# Altium footprint library VFQFN-16.PcbLib: 1 footprints
Each footprint in its own frame and in the unit in brackets; x right, y up, seen from the top. Pads: shape width x height; smd on the part's side, far side on the other; paste and mask are expansions set on the pad; w line width, h text height; cw(c..) or ccw(c..) is an arc to the next point about the centre after c.
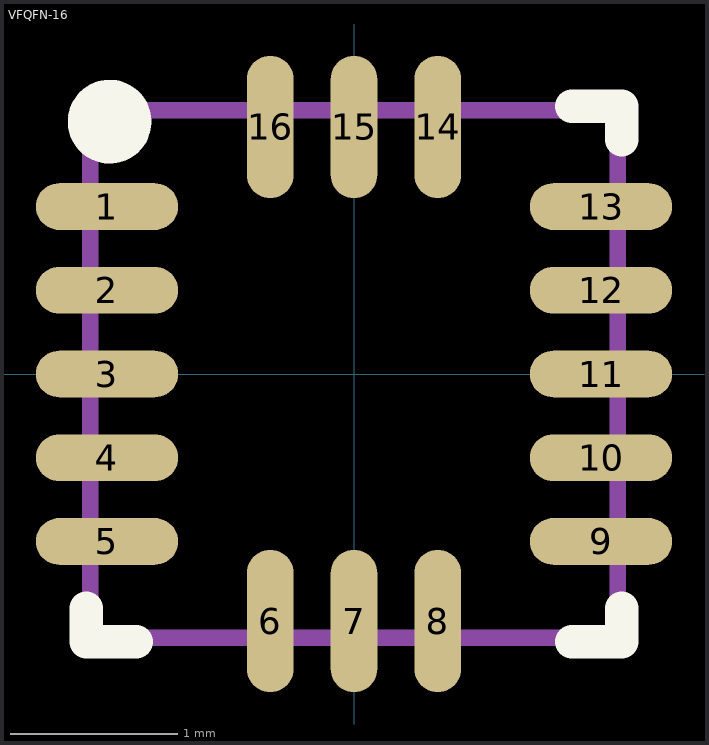
[diagram p0: the footprint, top view; thin cyan lines are the x and y axes]

## VFQFN-16 [mm]
pads (16):
  oval 0.85x0.28 smd mask+0.051: 1(-1.475,1) 2(-1.475,0.5) 3(-1.475,0) 4(-1.475,-0.5) 5(-1.475,-1) 9(1.475,-1) 10(1.475,-0.5) 11(1.475,0) 12(1.475,0.5) 13(1.475,1)
  oval 0.28x0.85 smd mask+0.051: 6(-0.5,-1.475) 7(0,-1.475) 8(0.5,-1.475) 14(0.5,1.475) 15(0,1.475) 16(-0.5,1.475)
Top Overlay:
  circle w0.25: c-1.46,1.507 r0.125
  lines w0.2: -1.6,-1.4 -1.6,-1.6 -1.3,-1.6 ; 1.3,-1.6 1.6,-1.6 1.6,-1.4 ; 1.3,1.6 1.6,1.6 1.6,1.4
Mechanical 13:
  lines w0.1: -1.575,-1.575 1.575,-1.575 1.575,1.575 -1.575,1.575 -1.575,-1.575